# Altium schematic symbol library LDQ40PUR.Schlib: 1 symbol
Pins are listed as number, name and electrical type; pins without a type are passive.

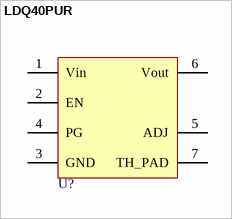
[diagram p0: symbol LDQ40PUR]

## LDQ40PUR
designator U?
200mA, 40V, Linear Voltage Regulator
pins: 1 Vin, 2 EN, 3 GND, 4 PG, 5 ADJ, 6 Vout, 7 TH_PAD